# EAGLE library part CON-DD1R030HA1 (library diode-20CJQ030)
JAE's DD1R030HA1 30 pole IO-connector
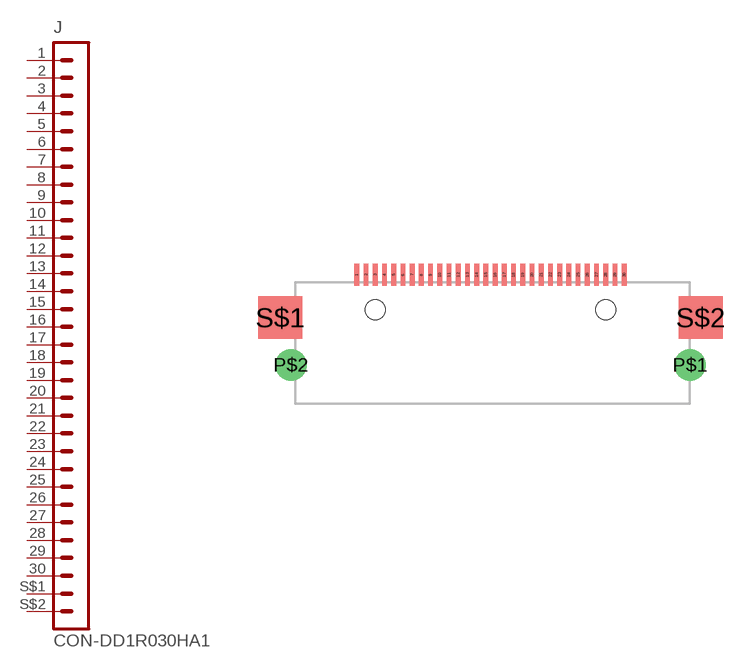
[diagram p126: symbol with the pads of CON-DD1R030HA1; footprint CON-DD1R030HA1]

Designator prefix J

## CON-DD1R030HA1  [CON-DD1R030HA1]
1  1  pas
2  2  pas
3  3  pas
4  4  pas
5  5  pas
6  6  pas
7  7  pas
8  8  pas
9  9  pas
10  10  pas
11  11  pas
12  12  pas
13  13  pas
14  14  pas
15  15  pas
16  16  pas
17  17  pas
18  18  pas
19  19  pas
20  20  pas
21  21  pas
22  22  pas
23  23  pas
24  24  pas
25  25  pas
26  26  pas
27  27  pas
28  28  pas
29  29  pas
30  30  pas
S$1  31  pas
S$2  32  pas

## Footprint CON-DD1R030HA1 (pad centres in mm)
JAE's DD1R030HA1 30 pole IO-connector
smd 0.26 x 1.2: 1 -7.25,1.9; 2 -6.75,1.9; 3 -6.25,1.9; 4 -5.75,1.9; 5 -5.25,1.9; 6 -4.75,1.9; 7 -4.25,1.9; 8 -3.75,1.9; 9 -3.25,1.9; 10 -2.75,1.9; 11 -2.25,1.9; 12 -1.75,1.9; 13 -1.25,1.9; 14 -0.75,1.9; 15 -0.25,1.9; 16 0.25,1.9; 17 0.75,1.9; 18 1.25,1.9; 19 1.75,1.9; 20 2.25,1.9; 21 2.75,1.9; 22 3.25,1.9; 23 3.75,1.9; 24 4.25,1.9; 25 4.75,1.9; 26 5.25,1.9; 27 5.75,1.9; 28 6.25,1.9; 29 6.75,1.9; 30 7.25,1.9
drill 1.1 pad 1.7 round: P$1 10.825,-3; P$2 -10.825,-3
smd 2.4 x 2.3: S$1 -11.4,-0.425; S$2 11.4,-0.425
hole 1.1 at 6.25,0
hole 1.1 at -6.25,0